# EAGLE library part #PULSAR (library PygmyBoards)
Pulsar Board and Shield Footprint Pads This is the only absolutely required part for the footprint. The parts in "#PULSAR-PART" are merely aesthetic. Reference board outline provided on the Document (48) layer.
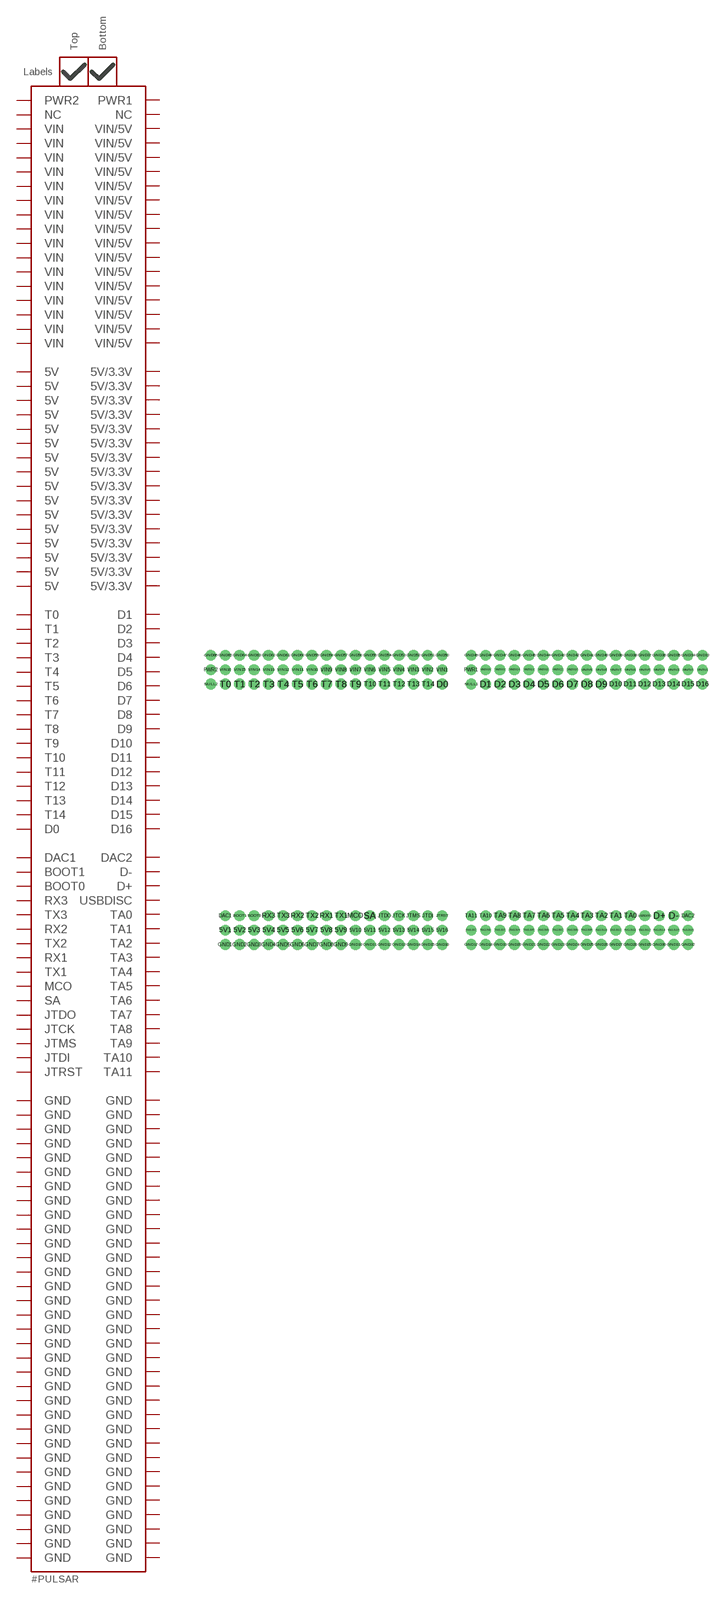
[diagram p2: symbol with the pads of #PULSAR-PTH; footprint #PULSAR-PTH]

Designator prefix PULSAR

## #PULSARPTH  [#PULSAR-PTH]
5V1  5V  pwr
5V2  5V  pwr
5V3  5V  pwr
5V4  5V  pwr
5V5  5V  pwr
5V6  5V  pwr
5V7  5V  pwr
5V8  5V  pwr
5V9  5V  pwr
5V10  5V  pwr
5V11  5V  pwr
5V12  5V  pwr
5V13  5V  pwr
5V14  5V  pwr
5V15  5V  pwr
5V16  5V  pwr
5V/3.3V1  5V/3.3V  pwr
5V/3.3V2  5V/3.3V  pwr
5V/3.3V3  5V/3.3V  pwr
5V/3.3V4  5V/3.3V  pwr
5V/3.3V5  5V/3.3V  pwr
5V/3.3V6  5V/3.3V  pwr
5V/3.3V7  5V/3.3V  pwr
5V/3.3V8  5V/3.3V  pwr
5V/3.3V9  5V/3.3V  pwr
5V/3.3V10  5V/3.3V  pwr
5V/3.3V11  5V/3.3V  pwr
5V/3.3V12  5V/3.3V  pwr
5V/3.3V13  5V/3.3V  pwr
5V/3.3V14  5V/3.3V  pwr
5V/3.3V15  5V/3.3V  pwr
5V/3.3V16  5V/3.3V  pwr
BOOT0  BOOT0
BOOT1  BOOT1
D0  D0
D1  D1
D2  D2
D3  D3
D4  D4
D5  D5
D6  D6
D7  D7
D8  D8
D9  D9
D10  D10
D11  D11
D12  D12
D13  D13
D14  D14
D15  D15
D16  D16
D+  D+
D-  D-
DAC1  DAC1
DAC2  DAC2
GND1  GND  pwr
GND2  GND  pwr
GND3  GND  pwr
GND4  GND  pwr
GND5  GND  pwr
GND6  GND  pwr
GND7  GND  pwr
GND8  GND  pwr
GND9  GND  pwr
GND10  GND  pwr
GND11  GND  pwr
GND12  GND  pwr
GND13  GND  pwr
GND14  GND  pwr
GND15  GND  pwr
GND16  GND  pwr
GND17  GND  pwr
GND18  GND  pwr
GND19  GND  pwr
GND20  GND  pwr
GND21  GND  pwr
GND22  GND  pwr
GND23  GND  pwr
GND24  GND  pwr
GND25  GND  pwr
GND26  GND  pwr
GND27  GND  pwr
GND28  GND  pwr
GND29  GND  pwr
GND30  GND  pwr
GND31  GND  pwr
GND32  GND  pwr
GND33  GND  pwr
GND34  GND  pwr
GND35  GND  pwr
GND36  GND  pwr
GND37  GND  pwr
GND38  GND  pwr
GND39  GND  pwr
GND40  GND  pwr
GND41  GND  pwr
GND42  GND  pwr
GND43  GND  pwr
GND44  GND  pwr
GND45  GND  pwr
GND46  GND  pwr
GND47  GND  pwr
GND48  GND  pwr
GND49  GND  pwr
GND50  GND  pwr
GND51  GND  pwr
GND52  GND  pwr
GND53  GND  pwr
GND54  GND  pwr
GND55  GND  pwr
GND56  GND  pwr
GND57  GND  pwr
GND58  GND  pwr
GND59  GND  pwr
GND60  GND  pwr
GND61  GND  pwr
GND62  GND  pwr
GND63  GND  pwr
GND64  GND  pwr
GND65  GND  pwr
GND66  GND  pwr
JTCK  JTCK
JTDI  JTDI
JTDO  JTDO
JTMS  JTMS
JTRST  JTRST
MCO  MCO
NULL1  NC  nc
NULL2  NC  nc
PWR1  PWR1  pwr
PWR2  PWR2  pwr
RX1  RX1
RX2  RX2
RX3  RX3
SA  SA
T0  T0
T1  T1
T2  T2
T3  T3
T4  T4
T5  T5
T6  T6
T7  T7
T8  T8
T9  T9
T10  T10
T11  T11
T12  T12
T13  T13
T14  T14
TA0  TA0
TA1  TA1
TA2  TA2
TA3  TA3
TA4  TA4
TA5  TA5
TA6  TA6
TA7  TA7
TA8  TA8
TA9  TA9
TA10  TA10
TA11  TA11
TX1  TX1
TX2  TX2
TX3  TX3
USBDISC  USBDISC
VIN1  VIN  pwr
VIN2  VIN  pwr
VIN3  VIN  pwr
VIN4  VIN  pwr
VIN5  VIN  pwr
VIN6  VIN  pwr
VIN7  VIN  pwr
VIN8  VIN  pwr
VIN9  VIN  pwr
VIN10  VIN  pwr
VIN11  VIN  pwr
VIN12  VIN  pwr
VIN13  VIN  pwr
VIN14  VIN  pwr
VIN15  VIN  pwr
VIN16  VIN  pwr
VIN/5V1  VIN/5V  pwr
VIN/5V2  VIN/5V  pwr
VIN/5V3  VIN/5V  pwr
VIN/5V4  VIN/5V  pwr
VIN/5V5  VIN/5V  pwr
VIN/5V6  VIN/5V  pwr
VIN/5V7  VIN/5V  pwr
VIN/5V8  VIN/5V  pwr
VIN/5V9  VIN/5V  pwr
VIN/5V10  VIN/5V  pwr
VIN/5V11  VIN/5V  pwr
VIN/5V12  VIN/5V  pwr
VIN/5V13  VIN/5V  pwr
VIN/5V14  VIN/5V  pwr
VIN/5V15  VIN/5V  pwr
VIN/5V16  VIN/5V  pwr

## Footprint #PULSAR-PTH (pad centres in mm)
Plated through holes
drill 1.016 pad 1.905 round: 5V1 -87.63,-55.88; 5V2 -85.09,-55.88; 5V3 -82.55,-55.88; 5V4 -80.01,-55.88; 5V5 -77.47,-55.88; 5V6 -74.93,-55.88; 5V7 -72.39,-55.88; 5V8 -69.85,-55.88; 5V9 -67.31,-55.88; 5V10 -64.77,-55.88; 5V11 -62.23,-55.88; 5V12 -59.69,-55.88; 5V13 -57.15,-55.88; 5V14 -54.61,-55.88; 5V15 -52.07,-55.88; 5V16 -49.53,-55.88; 5V/3.3V1 -44.45,-55.88; 5V/3.3V2 -41.91,-55.88; 5V/3.3V3 -39.37,-55.88; 5V/3.3V4 -36.83,-55.88; 5V/3.3V5 -34.29,-55.88; 5V/3.3V6 -31.75,-55.88; 5V/3.3V7 -29.21,-55.88; 5V/3.3V8 -26.67,-55.88; 5V/3.3V9 -24.13,-55.88; 5V/3.3V10 -21.59,-55.88; 5V/3.3V11 -19.05,-55.88; 5V/3.3V12 -16.51,-55.88; 5V/3.3V13 -13.97,-55.88; 5V/3.3V14 -11.43,-55.88; 5V/3.3V15 -8.89,-55.88; 5V/3.3V16 -6.35,-55.88; BOOT0 -82.55,-53.34; BOOT1 -85.09,-53.34; D0 -49.53,-12.7; D1 -41.91,-12.7; D2 -39.37,-12.7; D3 -36.83,-12.7; D4 -34.29,-12.7; D5 -31.75,-12.7; D6 -29.21,-12.7; D7 -26.67,-12.7; D8 -24.13,-12.7; D9 -21.59,-12.7; D10 -19.05,-12.7; D11 -16.51,-12.7; D12 -13.97,-12.7; D13 -11.43,-12.7; D14 -8.89,-12.7; D15 -6.35,-12.7; D16 -3.81,-12.7; D+ -11.43,-53.34; D- -8.89,-53.34; DAC1 -87.63,-53.34; DAC2 -6.35,-53.34; GND1 -87.63,-58.42; GND2 -85.09,-58.42; GND3 -82.55,-58.42; GND4 -80.01,-58.42; GND5 -77.47,-58.42; GND6 -74.93,-58.42; GND7 -72.39,-58.42; GND8 -69.85,-58.42; GND9 -67.31,-58.42; GND10 -64.77,-58.42; GND11 -62.23,-58.42; GND12 -59.69,-58.42; GND13 -57.15,-58.42; GND14 -54.61,-58.42; GND15 -52.07,-58.42; GND16 -49.53,-58.42; GND17 -44.45,-58.42; GND18 -41.91,-58.42; GND19 -39.37,-58.42; GND20 -36.83,-58.42; GND21 -34.29,-58.42; GND22 -31.75,-58.42; GND23 -29.21,-58.42; GND24 -26.67,-58.42; GND25 -24.13,-58.42; GND26 -21.59,-58.42; GND27 -19.05,-58.42; GND28 -16.51,-58.42; GND29 -13.97,-58.42; GND30 -11.43,-58.42; GND31 -8.89,-58.42; GND32 -6.35,-58.42; GND33 -3.81,-7.62; GND34 -6.35,-7.62; GND35 -8.89,-7.62; GND36 -11.43,-7.62; GND37 -13.97,-7.62; GND38 -16.51,-7.62; GND39 -19.05,-7.62; GND40 -21.59,-7.62; GND41 -24.13,-7.62; GND42 -26.67,-7.62; GND43 -29.21,-7.62; GND44 -31.75,-7.62; GND45 -34.29,-7.62; GND46 -36.83,-7.62; GND47 -39.37,-7.62; GND48 -41.91,-7.62; GND49 -44.45,-7.62; GND50 -49.53,-7.62; GND51 -52.07,-7.62; GND52 -54.61,-7.62; GND53 -57.15,-7.62; GND54 -59.69,-7.62; GND55 -62.23,-7.62; GND56 -64.77,-7.62; GND57 -67.31,-7.62; GND58 -69.85,-7.62; GND59 -72.39,-7.62; GND60 -74.93,-7.62; GND61 -77.47,-7.62; GND62 -80.01,-7.62; GND63 -82.55,-7.62; GND64 -85.09,-7.62; GND65 -87.63,-7.62; GND66 -90.17,-7.62; JTCK -57.15,-53.34; JTDI -52.07,-53.34; JTDO -59.69,-53.34; JTMS -54.61,-53.34; JTRST -49.53,-53.34; MCO -64.77,-53.34; NULL1 -44.45,-12.7; NULL2 -90.17,-12.7; PWR1 -44.45,-10.16; PWR2 -90.17,-10.16; RX1 -69.85,-53.34; RX2 -74.93,-53.34; RX3 -80.01,-53.34; SA -62.23,-53.34; T0 -87.63,-12.7; T1 -85.09,-12.7; T2 -82.55,-12.7; T3 -80.01,-12.7; T4 -77.47,-12.7; T5 -74.93,-12.7; T6 -72.39,-12.7; T7 -69.85,-12.7; T8 -67.31,-12.7; T9 -64.77,-12.7; T10 -62.23,-12.7; T11 -59.69,-12.7; T12 -57.15,-12.7; T13 -54.61,-12.7; T14 -52.07,-12.7; TA0 -16.51,-53.34; TA1 -19.05,-53.34; TA2 -21.59,-53.34; TA3 -24.13,-53.34; TA4 -26.67,-53.34; TA5 -29.21,-53.34; TA6 -31.75,-53.34; TA7 -34.29,-53.34; TA8 -36.83,-53.34; TA9 -39.37,-53.34; TA10 -41.91,-53.34; TA11 -44.45,-53.34; TX1 -67.31,-53.34; TX2 -72.39,-53.34; TX3 -77.47,-53.34; USBDISC -13.97,-53.34; VIN1 -49.53,-10.16; VIN2 -52.07,-10.16; VIN3 -54.61,-10.16; VIN4 -57.15,-10.16; VIN5 -59.69,-10.16; VIN6 -62.23,-10.16; VIN7 -64.77,-10.16; VIN8 -67.31,-10.16; VIN9 -69.85,-10.16; VIN10 -72.39,-10.16; VIN11 -74.93,-10.16; VIN12 -77.47,-10.16; VIN13 -80.01,-10.16; VIN14 -82.55,-10.16; VIN15 -85.09,-10.16; VIN16 -87.63,-10.16; VIN/5V1 -3.81,-10.16; VIN/5V2 -6.35,-10.16; VIN/5V3 -8.89,-10.16; VIN/5V4 -11.43,-10.16; VIN/5V5 -13.97,-10.16; VIN/5V6 -16.51,-10.16; VIN/5V7 -19.05,-10.16; VIN/5V8 -21.59,-10.16; VIN/5V9 -24.13,-10.16; VIN/5V10 -26.67,-10.16; VIN/5V11 -29.21,-10.16; VIN/5V12 -31.75,-10.16; VIN/5V13 -34.29,-10.16; VIN/5V14 -36.83,-10.16; VIN/5V15 -39.37,-10.16; VIN/5V16 -41.91,-10.16